# Altium integrated library TI Interface Display.IntLib: 133 symbols (part 14 of 16)
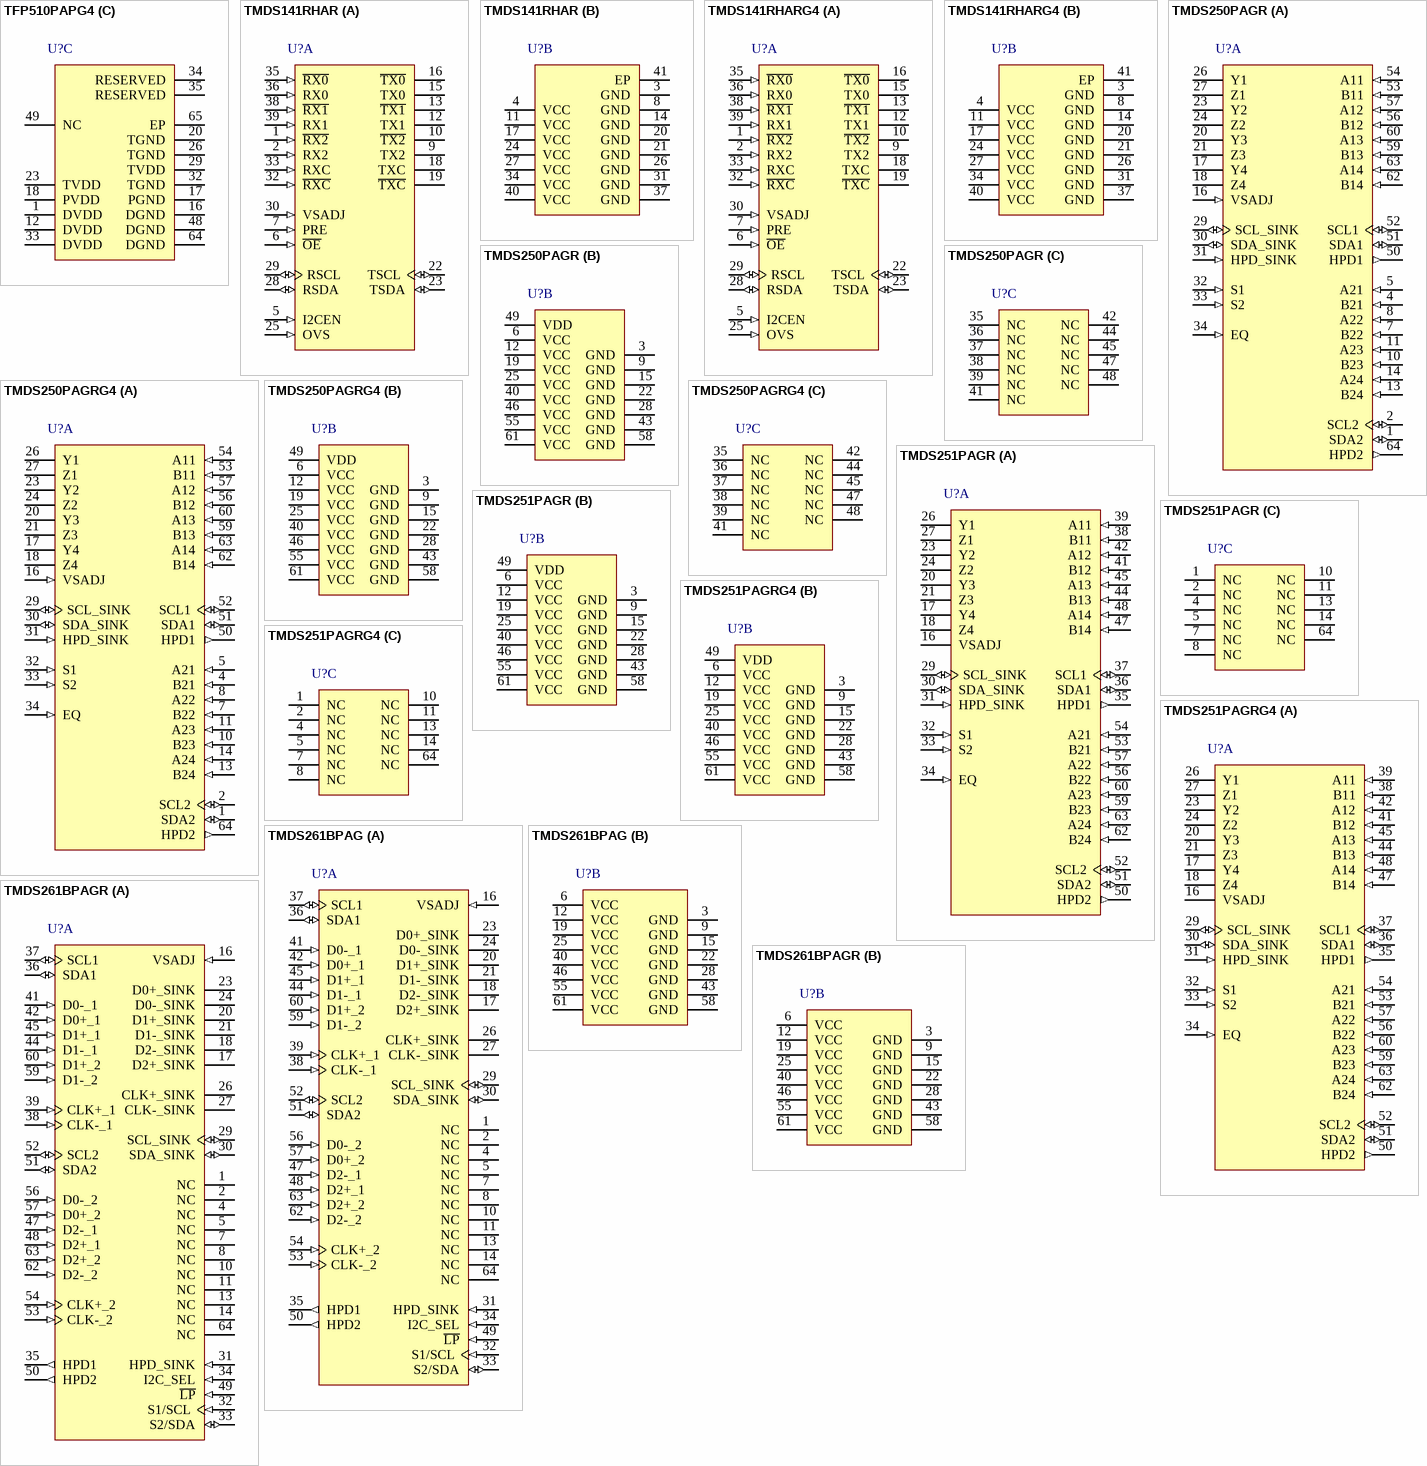
[diagram p27: symbols TFP510PAPG4 to TMDS261BPAGR]

## TMDS141RHARG4
designator U?
HDMI Hider, 130 mA, 6 kV, 0 to +70 degC, 40-pin QFN (RHA), Green (RoHS & no Sb/Br); Manufacturer: Texas Instruments; PartNumber: TMDS141RHARG4; Clock P-P Jitter(Max)(ps): 30; Data P-P Jitter(Max)(ps): 90; ESD HBM(kV): 6; ICC(Max)(mA): 130; Inter-Pair Skew(Max)(ps): 80; Intra-Pair Skew(Max)(ps): 60; No. of TMDS Inputs: 1; SubFamily: DVI/HDMI Repeater/Switch; TMDS Input Equalization: TRUE; DatasheetVersion: SLLS737D; PackageVersion: revL, May-2012; PackageReference: RHA40-2900X2900TP; PackageDescription: 40-Pin Plastic Quad Flatpack No-Lead, 6 x 6 mm Body, 0.5 mm Pitch; Supplier 1: Digi-Key; Supplier Part Number 1: TMDS141RHARG4-ND; Supplier 2: Newark; Supplier Part Number 2: 04M0197; Supplier 3: Mouser; Supplier Part Number 3: 595-TMDS141RHARG4; Eco-Plan: Green (RoHS & no Sb/Br); No. of TMDS Outputs: 1; TMDS Output De-emphasis: TRUE; Mounting Technology: Surface Mount; Code_JEDEC: MO-220-VJJD-2; ComponentLink1Description: Datasheet; ComponentLink1URL: http://www.ti.com/general/docs/lit/getliterature.tsp?genericPartNumber=TMDS141&fileType=pdf; ComponentLink2Description: URL Link1; ComponentLink2URL: SamplesURL:http://www.ti.com/product/tmds141#samples
footprint RHA40-2900X2900TP (QFN, 40-Leads, Body 6x6mm, Pitch 0.5mm, Thermal Pad 2.9x2.9mm, TI Recommended)
part A pins: 1 ~{RX2} (in) "TMDS Negative inputs", 2 RX2 (in) "TMDS Positive inputs", 5 I2CEN (in) "I2C Repeater enable. Low: High-Z;High: Active", 6 ~{OE} (in) "TMDS Output enable. Low: Active;High: High-Z", 7 PRE (in) "TMDS Output de-emphasis adjustment. Low: 0 dB;High: 3.5 dB", 9 TX2 (hiz) "TMDS Positive outputs", 10 ~{TX2} (hiz) "TMDS Negative outputs", 12 TX1 (hiz) "TMDS Positive outputs", 13 ~{TX1} (hiz) "TMDS Negative outputs", 15 TX0 (hiz) "TMDS Positive outputs", 16 ~{TX0} (hiz) "TMDS Negative outputs", 18 TXC (hiz) "TMDS Positive outputs", 19 ~{TXC} (hiz) "TMDS Negative outputs", 22 TSCL (io) "DDC Bus clock line to sink", 23 TSDA (io) "DDC Bus data line to sink", 25 OVS (in) "TSCL/TSDA Output voltage select", 28 RSDA (io) "DDC Bus data line to source", 29 RSCL (io) "DDC Bus clock line to source", 30 VSADJ (in) "TMDS Compliant voltage swing control", 32 ~{RXC} (in) "TMDS Negative inputs", 33 RXC (in) "TMDS Positive inputs", 35 ~{RX0} (in) "TMDS Negative inputs", 36 RX0 (in) "TMDS Positive inputs", 38 ~{RX1} (in) "TMDS Negative inputs", 39 RX1 (in) "TMDS Positive inputs"
part B pins: 3 GND (power) "Ground", 4 VCC (power) "Power supply", 8 GND (power) "Ground", 11 VCC (power) "Power supply", 14 GND (power) "Ground", 17 VCC (power) "Power supply", 20 GND (power) "Ground", 21 GND (power) "Ground", 24 VCC (power) "Power supply", 26 GND (power) "Ground", 27 VCC (power) "Power supply", 31 GND (power) "Ground", 34 VCC (power) "Power supply", 37 GND (power) "Ground", 40 VCC (power) "Power supply", 41 EP (power) "Exposed Thermal Pad"

## TMDS250PAGR
designator U?
2.5 Gbps 2 to 1 DVI / HDMI Switch, 200 mA, 8 kV, 0 to +70 degC, 64-pin TQPF (PAG), Green (RoHS & no Sb/Br); Manufacturer: Texas Instruments; PartNumber: TMDS250PAGR; Clock P-P Jitter(Max)(ps): 30; Data P-P Jitter(Max)(ps): 90; ESD HBM(kV): 8; ICC(Max)(mA): 200; Inter-Pair Skew(Max)(ps): 65; Intra-Pair Skew(Max)(ps): 40; No. of TMDS Inputs: 2; No. of TMDS Outputs: 1; SubFamily: DVI/HDMI Repeater/Switch; TMDS Input Equalization: TRUE; DatasheetVersion: SLLS866; PackageVersion: Dec-1996; PackageReference: PAG64; PackageDescription: 64-Pin Thin Quad Flat Pack 0.5 mm Pitch; Supplier 1: Digi-Key; Supplier Part Number 1: 296-22581-2-ND; Supplier 2: Digi-Key; Supplier Part Number 2: 296-22581-1-ND; Supplier 3: Digi-Key; Supplier Part Number 3: 296-22581-6-ND; Supplier 4: Newark; Supplier Part Number 4: 55M5940; Supplier 5: Mouser; Supplier Part Number 5: 595-TMDS250PAGR; Eco-Plan: Green (RoHS & no Sb/Br); Mounting Technology: Surface Mount; Code_JEDEC: MS-026; ComponentLink1Description: Datasheet; ComponentLink1URL: http://www.ti.com/general/docs/lit/getliterature.tsp?genericPartNumber=TMDS250&fileType=pdf; ComponentLink2Description: URL Link1; ComponentLink2URL: SamplesURL:http://www.ti.com/product/tmds250#samples
footprint PAG64_N (Thin QFP, 64-Leads, Body 10x10mm, Pitch 0.5mm, IPC Medium Density)
footprint PAG64_L (Thin QFP, 64-Leads, Body 10x10mm, Pitch 0.5mm, IPC High Density)
footprint PAG64_M (Thin QFP, 64-Leads, Body 10x10mm, Pitch 0.5mm, IPC Low Density)
part A pins: 1 SDA2 (io) "Source port 2 DDC I2C data line.", 2 SCL2 (io) "Source port 2 DDC I2C clock line.", 4 B21 (in) "Source port 2 TMDS negative input.", 5 A21 (in) "Source port 2 TMDS positive input.", 7 B22 (in) "Source port 2 TMDS negative input.", 8 A22 (in) "Source port 2 TMDS positive input.", 10 B23 (in) "Source port 2 TMDS negative input.", 11 A23 (in) "Source port 2 TMDS positive input.", 13 B24 (in) "Source port 2 TMDS negative input.", 14 A24 (in) "Source port 2 TMDS positive input.", 16 VSADJ (in) "TMDS compliant voltage swing control (control pin).", 17 Y4 (hiz) "Sink port TMDS positive output.", 18 Z4 (hiz) "Sink port TMDS negative output.", 20 Y3 (hiz) "Sink port TMDS positive output.", 21 Z3 (hiz) "Sink port TMDS negative output.", 23 Y2 (hiz) "Sink port TMDS positive output.", 24 Z2 (hiz) "Sink port TMDS negative output.", 26 Y1 (hiz) "Sink port TMDS positive output.", 27 Z1 (hiz) "Sink port TMDS negative output.", 29 SCL_SINK (io) "Sink port DDC I2C clock line.", 30 SDA_SINK (io) "Sink port DDC I2C data line.", 31 HPD_SINK (in) "Sink port hot plug detector input (status pin).", 32 S1 (in) "Source selector.", 33 S2 (in) "Source selector.", 34 EQ (in) "TMDS Input equalization selector (control pin).EQ = Low - HDMI 1.3 compliant cable; EQ = high - 10 m 28 AWG HDMI cable.", 50 HPD1 (out) "Source port 1 hot plug detector output (status pin).", 51 SDA1 (io) "Source port 1 DDC I2C data line.", 52 SCL1 (io) "Source port 1 DDC I2C clock line.", 53 B11 (in) "Source port 1 TMDS negative input.", 54 A11 (in) "Source port 1 TMDS positive input.", 56 B12 (in) "Source port 1 TMDS negative input.", 57 A12 (in) "Source port 1 TMDS positive input.", 59 B13 (in) "Source port 1 TMDS negative input.", 60 A13 (in) "Source port 1 TMDS positive input.", 62 B14 (in) "Source port 1 TMDS negative input.", 63 A14 (in) "Source port 1 TMDS positive input.", 64 HPD2 (out) "Source port 2 hot plug detector output (status pin)."
part B pins: 3 GND (power) "Ground.", 6 VCC (power) "Power supply.", 9 GND (power) "Ground.", 12 VCC (power) "Power supply.", 15 GND (power) "Ground.", 19 VCC (power) "Power supply.", 22 GND (power) "Ground.", 25 VCC (power) "Power supply.", 28 GND (power) "Ground.", 40 VCC (power) "Power supply.", 43 GND (power) "Ground.", 46 VCC (power) "Power supply.", 49 VDD (power) "HPD/DDC Power supply.", 55 VCC (power) "Power supply.", 58 GND (power) "Ground.", 61 VCC (power) "Power supply."
part C pins: 35 NC "No connect: these pins should be left floating.", 36 NC "No connect: these pins should be left floating.", 37 NC "No connect: these pins should be left floating.", 38 NC "No connect: these pins should be left floating.", 39 NC "No connect: these pins should be left floating", 41 NC "No connect: these pins should be left floating.", 42 NC "No connect: these pins should be left floating.", 44 NC "No connect: these pins should be left floating.", 45 NC "No connect: these pins should be left floating.", 47 NC "No connect: these pins should be left floating.", 48 NC "No connect: these pins should be left floating."

## TMDS250PAGRG4
designator U?
2.5 Gbps 2 to 1 DVI / HDMI Switch, 200 mA, 8 kV, 0 to +70 degC, 64-pin TQPF (PAG), Green (RoHS & no Sb/Br); Manufacturer: Texas Instruments; PartNumber: TMDS250PAGRG4; Clock P-P Jitter(Max)(ps): 30; Data P-P Jitter(Max)(ps): 90; ESD HBM(kV): 8; ICC(Max)(mA): 200; Inter-Pair Skew(Max)(ps): 65; Intra-Pair Skew(Max)(ps): 40; No. of TMDS Inputs: 2; No. of TMDS Outputs: 1; SubFamily: DVI/HDMI Repeater/Switch; TMDS Input Equalization: TRUE; DatasheetVersion: SLLS866; PackageVersion: Dec-1996; PackageReference: PAG64; PackageDescription: 64-Pin Thin Quad Flat Pack 0.5 mm Pitch; Supplier 1: Digi-Key; Supplier Part Number 1: TMDS250PAGRG4-ND; Supplier 2: Newark; Supplier Part Number 2: 60M1761; Supplier 3: Mouser; Supplier Part Number 3: 595-TMDS250PAGRG4; Eco-Plan: Green (RoHS & no Sb/Br); Mounting Technology: Surface Mount; Code_JEDEC: MS-026; ComponentLink1Description: Datasheet; ComponentLink1URL: http://www.ti.com/general/docs/lit/getliterature.tsp?genericPartNumber=TMDS250&fileType=pdf; ComponentLink2Description: URL Link1; ComponentLink2URL: SamplesURL:http://www.ti.com/product/tmds250#samples
footprint PAG64_N (Thin QFP, 64-Leads, Body 10x10mm, Pitch 0.5mm, IPC Medium Density)
footprint PAG64_L (Thin QFP, 64-Leads, Body 10x10mm, Pitch 0.5mm, IPC High Density)
footprint PAG64_M (Thin QFP, 64-Leads, Body 10x10mm, Pitch 0.5mm, IPC Low Density)
part A pins: 1 SDA2 (io) "Source port 2 DDC I2C data line.", 2 SCL2 (io) "Source port 2 DDC I2C clock line.", 4 B21 (in) "Source port 2 TMDS negative input.", 5 A21 (in) "Source port 2 TMDS positive input.", 7 B22 (in) "Source port 2 TMDS negative input.", 8 A22 (in) "Source port 2 TMDS positive input.", 10 B23 (in) "Source port 2 TMDS negative input.", 11 A23 (in) "Source port 2 TMDS positive input.", 13 B24 (in) "Source port 2 TMDS negative input.", 14 A24 (in) "Source port 2 TMDS positive input.", 16 VSADJ (in) "TMDS compliant voltage swing control (control pin).", 17 Y4 (hiz) "Sink port TMDS positive output.", 18 Z4 (hiz) "Sink port TMDS negative output.", 20 Y3 (hiz) "Sink port TMDS positive output.", 21 Z3 (hiz) "Sink port TMDS negative output.", 23 Y2 (hiz) "Sink port TMDS positive output.", 24 Z2 (hiz) "Sink port TMDS negative output.", 26 Y1 (hiz) "Sink port TMDS positive output.", 27 Z1 (hiz) "Sink port TMDS negative output.", 29 SCL_SINK (io) "Sink port DDC I2C clock line.", 30 SDA_SINK (io) "Sink port DDC I2C data line.", 31 HPD_SINK (in) "Sink port hot plug detector input (status pin).", 32 S1 (in) "Source selector.", 33 S2 (in) "Source selector.", 34 EQ (in) "TMDS Input equalization selector (control pin).EQ = Low - HDMI 1.3 compliant cable; EQ = high - 10 m 28 AWG HDMI cable.", 50 HPD1 (out) "Source port 1 hot plug detector output (status pin).", 51 SDA1 (io) "Source port 1 DDC I2C data line.", 52 SCL1 (io) "Source port 1 DDC I2C clock line.", 53 B11 (in) "Source port 1 TMDS negative input.", 54 A11 (in) "Source port 1 TMDS positive input.", 56 B12 (in) "Source port 1 TMDS negative input.", 57 A12 (in) "Source port 1 TMDS positive input.", 59 B13 (in) "Source port 1 TMDS negative input.", 60 A13 (in) "Source port 1 TMDS positive input.", 62 B14 (in) "Source port 1 TMDS negative input.", 63 A14 (in) "Source port 1 TMDS positive input.", 64 HPD2 (out) "Source port 2 hot plug detector output (status pin)."
part B pins: 3 GND (power) "Ground.", 6 VCC (power) "Power supply.", 9 GND (power) "Ground.", 12 VCC (power) "Power supply.", 15 GND (power) "Ground.", 19 VCC (power) "Power supply.", 22 GND (power) "Ground.", 25 VCC (power) "Power supply.", 28 GND (power) "Ground.", 40 VCC (power) "Power supply.", 43 GND (power) "Ground.", 46 VCC (power) "Power supply.", 49 VDD (power) "HPD/DDC Power supply.", 55 VCC (power) "Power supply.", 58 GND (power) "Ground.", 61 VCC (power) "Power supply."
part C pins: 35 NC "No connect: these pins should be left floating.", 36 NC "No connect: these pins should be left floating.", 37 NC "No connect: these pins should be left floating.", 38 NC "No connect: these pins should be left floating.", 39 NC "No connect: these pins should be left floating", 41 NC "No connect: these pins should be left floating.", 42 NC "No connect: these pins should be left floating.", 44 NC "No connect: these pins should be left floating.", 45 NC "No connect: these pins should be left floating.", 47 NC "No connect: these pins should be left floating.", 48 NC "No connect: these pins should be left floating."

## TMDS251PAGR
designator U?
2.5 Gbps 2 to 1 DVI / HDMI Switch, 200 mA, 8 kV, 0 to +70 degC, 64-pin TQPF (PAG), Green (RoHS & no Sb/Br); Manufacturer: Texas Instruments; PartNumber: TMDS251PAGR; Clock P-P Jitter(Max)(ps): 30; Data P-P Jitter(Max)(ps): 90; ESD HBM(kV): 8; ICC(Max)(mA): 200; Inter-Pair Skew(Max)(ps): 65; Intra-Pair Skew(Max)(ps): 40; No. of TMDS Inputs: 2; No. of TMDS Outputs: 1; SubFamily: DVI/HDMI Repeater/Switch; TMDS Input Equalization: TRUE; DatasheetVersion: SLLS852A; PackageVersion: Dec-1996; PackageReference: PAG64; PackageDescription: 64-Pin Thin Quad Flat Pack 0.5 mm Pitch; Supplier 1: Digi-Key; Supplier Part Number 1: 296-22051-2-ND; Supplier 2: Digi-Key; Supplier Part Number 2: 296-22051-1-ND; Supplier 3: Digi-Key; Supplier Part Number 3: 296-22051-6-ND; Supplier 4: Newark; Supplier Part Number 4: 53M3985; Supplier 5: Mouser; Supplier Part Number 5: 595-TMDS251PAGR; Eco-Plan: Green (RoHS & no Sb/Br); Mounting Technology: Surface Mount; Code_JEDEC: MS-026; ComponentLink1Description: Datasheet; ComponentLink1URL: http://www.ti.com/general/docs/lit/getliterature.tsp?genericPartNumber=TMDS251&fileType=pdf; ComponentLink2Description: URL Link1; ComponentLink2URL: SamplesURL:http://www.ti.com/product/tmds251#samples
footprint PAG64_N (Thin QFP, 64-Leads, Body 10x10mm, Pitch 0.5mm, IPC Medium Density)
footprint PAG64_L (Thin QFP, 64-Leads, Body 10x10mm, Pitch 0.5mm, IPC High Density)
footprint PAG64_M (Thin QFP, 64-Leads, Body 10x10mm, Pitch 0.5mm, IPC Low Density)
part A pins: 16 VSADJ (hiz) "TMDS compliant voltage swing control (control pin)", 17 Y4 (hiz) "Sink port TMDS positive outputs", 18 Z4 (hiz) "Sink port TMDS negative outputs", 20 Y3 (hiz) "Sink port TMDS positive outputs", 21 Z3 (hiz) "Sink port TMDS negative outputs", 23 Y2 (hiz) "Sink port TMDS positive outputs", 24 Z2 (hiz) "Sink port TMDS negative outputs", 26 Y1 (hiz) "Sink port TMDS positive outputs", 27 Z1 (hiz) "Sink port TMDS negative outputs", 29 SCL_SINK (io) "Sink port DDC I2C clock line", 30 SDA_SINK (io) "Sink port DDC I2C data line", 31 HPD_SINK (in) "Sink port hot plug detector input (status pin)", 32 S1 (in) "Source selector", 33 S2 (in) "Source selector", 34 EQ (in) "TMDS Input equalization selector (control pin) EQ 34 I EQ = Low - HDMI 1.3 compliant cable EQ = High - 10m 28 AWG HDMI cable", 35 HPD1 (out) "Source port 1 hot plug detector output (status pin)", 36 SDA1 (io) "Source port 1 DDC I2C data line", 37 SCL1 (io) "Source port 1 DDC I2C clock line", 38 B11 (in) "Source port 1 TMDS negative inputs", 39 A11 (in) "Source port 1 TMDS positive inputs", 41 B12 (in) "Source port 1 TMDS negative inputs", 42 A12 (in) "Source port 1 TMDS positive inputs", 44 B13 (in) "Source port 1 TMDS negative inputs", 45 A13 (in) "Source port 1 TMDS positive inputs", 47 B14 (in) "Source port 1 TMDS negative inputs", 48 A14 (in) "Source port 1 TMDS positive inputs", 50 HPD2 (out) "Source port 2 hot plug detector output (status pin)", 51 SDA2 (io) "Source port 2 DDC I2C data line", 52 SCL2 (io) "Source port 2 DDC I2C clock line", 53 B21 (in) "Source port 2 TMDS negative inputs", 54 A21 (in) "Source port 2 TMDS positive inputs", 56 B22 (in) "Source port 2 TMDS negative inputs", 57 A22 (in) "Source port 2 TMDS positive inputs", 59 B23 (in) "Source port 2 TMDS negative inputs", 60 A23 (in) "Source port 2 TMDS positive inputs", 62 B24 (in) "Source port 2 TMDS negative inputs", 63 A24 (in) "Source port 2 TMDS positive inputs"
part B pins: 3 GND (power) "Ground", 6 VCC (power) "Power supply", 9 GND (power) "Ground", 12 VCC (power) "Power supply", 15 GND (power) "Ground", 19 VCC (power) "Power supply", 22 GND (power) "Ground", 25 VCC (power) "Power supply", 28 GND (power) "Ground", 40 VCC (power) "Power supply", 43 GND (power) "Ground", 46 VCC (power) "Power supply", 49 VDD (power) "HPD/DDC Power supply", 55 VCC (power) "Power supply", 58 GND (power) "Ground", 61 VCC (power) "Power supply"
part C pins: 1 NC "No connect: these pins should be left floating", 2 NC "No connect: these pins should be left floating", 4 NC "No connect: these pins should be left floating", 5 NC "No connect: these pins should be left floating", 7 NC "No connect: these pins should be left floating", 8 NC "No connect: these pins should be left floating", 10 NC "No connect: these pins should be left floating", 11 NC "No connect: these pins should be left floating", 13 NC "No connect: these pins should be left floating", 14 NC "No connect: these pins should be left floating", 64 NC "No connect: these pins should be left floating"

## TMDS251PAGRG4
designator U?
2-to-1 HDMI Switch, 200 mA, 8 kV, 0 to +70 degC, 64-pin TQPF (PAG), Green (RoHS & no Sb/Br); Manufacturer: Texas Instruments; PartNumber: TMDS251PAGRG4; Clock P-P Jitter(Max)(ps): 30; Data P-P Jitter(Max)(ps): 90; ESD HBM(kV): 8; ICC(Max)(mA): 200; Inter-Pair Skew(Max)(ps): 65; Intra-Pair Skew(Max)(ps): 40; No. of TMDS Inputs: 2; No. of TMDS Outputs: 1; SubFamily: DVI/HDMI Repeater/Switch; TMDS Input Equalization: TRUE; DatasheetVersion: SLLS852A; PackageVersion: Dec-1996; PackageReference: PAG64; PackageDescription: 64-Pin Thin Quad Flat Pack 0.5 mm Pitch; Supplier 1: Digi-Key; Supplier Part Number 1: TMDS251PAGRG4-ND; Supplier 2: Newark; Supplier Part Number 2: 60M1762; Supplier 3: Mouser; Supplier Part Number 3: 595-TMDS251PAGRG4; Eco-Plan: Green (RoHS & no Sb/Br); Mounting Technology: Surface Mount; Code_JEDEC: MS-026; ComponentLink1Description: Datasheet; ComponentLink1URL: http://www.ti.com/general/docs/lit/getliterature.tsp?genericPartNumber=TMDS251&fileType=pdf; ComponentLink2Description: URL Link1; ComponentLink2URL: SamplesURL:http://www.ti.com/product/tmds251#samples
footprint PAG64_N (Thin QFP, 64-Leads, Body 10x10mm, Pitch 0.5mm, IPC Medium Density)
footprint PAG64_L (Thin QFP, 64-Leads, Body 10x10mm, Pitch 0.5mm, IPC High Density)
footprint PAG64_M (Thin QFP, 64-Leads, Body 10x10mm, Pitch 0.5mm, IPC Low Density)
part A pins: 16 VSADJ (hiz) "TMDS compliant voltage swing control (control pin)", 17 Y4 (hiz) "Sink port TMDS positive outputs", 18 Z4 (hiz) "Sink port TMDS negative outputs", 20 Y3 (hiz) "Sink port TMDS positive outputs", 21 Z3 (hiz) "Sink port TMDS negative outputs", 23 Y2 (hiz) "Sink port TMDS positive outputs", 24 Z2 (hiz) "Sink port TMDS negative outputs", 26 Y1 (hiz) "Sink port TMDS positive outputs", 27 Z1 (hiz) "Sink port TMDS negative outputs", 29 SCL_SINK (io) "Sink port DDC I2C clock line", 30 SDA_SINK (io) "Sink port DDC I2C data line", 31 HPD_SINK (in) "Sink port hot plug detector input (status pin)", 32 S1 (in) "Source selector", 33 S2 (in) "Source selector", 34 EQ (in) "TMDS Input equalization selector (control pin) EQ 34 I EQ = Low - HDMI 1.3 compliant cable EQ = High - 10m 28 AWG HDMI cable", 35 HPD1 (out) "Source port 1 hot plug detector output (status pin)", 36 SDA1 (io) "Source port 1 DDC I2C data line", 37 SCL1 (io) "Source port 1 DDC I2C clock line", 38 B11 (in) "Source port 1 TMDS negative inputs", 39 A11 (in) "Source port 1 TMDS positive inputs", 41 B12 (in) "Source port 1 TMDS negative inputs", 42 A12 (in) "Source port 1 TMDS positive inputs", 44 B13 (in) "Source port 1 TMDS negative inputs", 45 A13 (in) "Source port 1 TMDS positive inputs", 47 B14 (in) "Source port 1 TMDS negative inputs", 48 A14 (in) "Source port 1 TMDS positive inputs", 50 HPD2 (out) "Source port 2 hot plug detector output (status pin)", 51 SDA2 (io) "Source port 2 DDC I2C data line", 52 SCL2 (io) "Source port 2 DDC I2C clock line", 53 B21 (in) "Source port 2 TMDS negative inputs", 54 A21 (in) "Source port 2 TMDS positive inputs", 56 B22 (in) "Source port 2 TMDS negative inputs", 57 A22 (in) "Source port 2 TMDS positive inputs", 59 B23 (in) "Source port 2 TMDS negative inputs", 60 A23 (in) "Source port 2 TMDS positive inputs", 62 B24 (in) "Source port 2 TMDS negative inputs", 63 A24 (in) "Source port 2 TMDS positive inputs"
part B pins: 3 GND (power) "Ground", 6 VCC (power) "Power supply", 9 GND (power) "Ground", 12 VCC (power) "Power supply", 15 GND (power) "Ground", 19 VCC (power) "Power supply", 22 GND (power) "Ground", 25 VCC (power) "Power supply", 28 GND (power) "Ground", 40 VCC (power) "Power supply", 43 GND (power) "Ground", 46 VCC (power) "Power supply", 49 VDD (power) "HPD/DDC Power supply", 55 VCC (power) "Power supply", 58 GND (power) "Ground", 61 VCC (power) "Power supply"
part C pins: 1 NC "No connect: these pins should be left floating", 2 NC "No connect: these pins should be left floating", 4 NC "No connect: these pins should be left floating", 5 NC "No connect: these pins should be left floating", 7 NC "No connect: these pins should be left floating", 8 NC "No connect: these pins should be left floating", 10 NC "No connect: these pins should be left floating", 11 NC "No connect: these pins should be left floating", 13 NC "No connect: these pins should be left floating", 14 NC "No connect: these pins should be left floating", 64 NC "No connect: these pins should be left floating"

## TMDS261BPAG
designator U?
Two-Port HDMI Switch, 216 mA, 9 kV, 0 to +70 degC, 64-pin TQPF (PAG), Green (RoHS & no Sb/Br); Manufacturer: Texas Instruments; PartNumber: TMDS261BPAG; Clock P-P Jitter(Max)(ps): 84; Data P-P Jitter(Max)(ps): 198; ESD HBM(kV): 9; ICC(Max)(mA): 216; Inter-Pair Skew(Max)(ps): 100; Intra-Pair Skew(Max)(ps): 30; No. of TMDS Inputs: 2; No. of TMDS Outputs: 1; SubFamily: DVI/HDMI Repeater/Switch; TMDS Adaptive Equalization: TRUE; DatasheetVersion: SLLS987A; PackageVersion: Dec-1996; PackageReference: PAG64; PackageDescription: 64-Pin Thin Quad Flat Pack 0.5 mm Pitch; Supplier 1: Digi-Key; Supplier Part Number 1: 296-25277-ND; Supplier 2: Farnell; Supplier Part Number 2: 1854447; Supplier 3: Farnell; Supplier Part Number 3: 1780793; Supplier 4: Newark; Supplier Part Number 4: 51R4692; Supplier 5: Mouser; Supplier Part Number 5: 595-TMDS261BPAG; Eco-Plan: Green (RoHS & no Sb/Br); Mounting Technology: Surface Mount; Code_JEDEC: MS-026; ComponentLink1Description: Datasheet; ComponentLink1URL: http://www.ti.com/general/docs/lit/getliterature.tsp?genericPartNumber=TMDS261B&fileType=pdf; ComponentLink2Description: URL Link1; ComponentLink2URL: SamplesURL:http://www.ti.com/product/tmds261b#samples
footprint PAG64_N (Thin QFP, 64-Leads, Body 10x10mm, Pitch 0.5mm, IPC Medium Density)
footprint PAG64_L (Thin QFP, 64-Leads, Body 10x10mm, Pitch 0.5mm, IPC High Density)
footprint PAG64_M (Thin QFP, 64-Leads, Body 10x10mm, Pitch 0.5mm, IPC Low Density)
part A pins: 1 NC "No-connect pin", 2 NC "No-connect pin", 4 NC "No-connect pin", 5 NC "No-connect pin", 7 NC "No-connect pin", 8 NC "No-connect pin", 10 NC "No-connect pin", 11 NC "No-connect pin", 13 NC "No-connect pin", 14 NC "No-connect pin", 16 VSADJ (in) "TMDS-compliant voltage swing control", 17 D2+_SINK (hiz) "TMDS sink differential data output", 18 D2-_SINK (hiz) "TMDS sink differential data output", 20 D1+_SINK (hiz) "TMDS sink differential data output", 21 D1-_SINK (hiz) "TMDS sink differential data output", 23 D0+_SINK (hiz) "TMDS sink differential data output", 24 D0-_SINK (hiz) "TMDS sink differential data output", 26 CLK+_SINK (hiz) "TMDS sink differential clock", 27 CLK-_SINK (hiz) "TMDS sink differential clock", 29 SCL_SINK (io) "TMDS sink-side bidirectional DDC clock", 30 SDA_SINK (io) "TMDS sink-side bidirectional DDC data", 31 HPD_SINK (in) "Sink hot-plug-detect input", 32 S1/SCL (in) "Source select 1(GPIO) / local I2C clock (I2C)", 33 S2/SDA (io) "Source select 2 (GPIO) / local I2C data (I2C)", 34 I2C_SEL (in) "GPIO/local I2C control select", 35 HPD1 (out) "Source port hot-plug-detect output", 36 SDA1 (io) "TMDS port bidirectional DDC data", 37 SCL1 (io) "TMDS port bidirectional DDC clock", 38 CLK-_1 (in) "Port-1 TMDS differential clock", 39 CLK+_1 (in) "Port-1 TMDS differential clock", 41 D0-_1 (in) "Port-1 TMDS differential data input", 42 D0+_1 (in) "Port-1 TMDS differential data input", 44 D1-_1 (in) "Port-1 TMDS differential data input", 45 D1+_1 (in) "Port-1 TMDS differential data input", 47 D2-_1 (in) "Port-1 TMDS differential data input", 48 D2+_1 (in) "Port-1 TMDS differential data input", 49 ~{LP} (in) "Low-power select bar", 50 HPD2 (out) "Source port hot-plug-detect output", 51 SDA2 (io) "TMDS port bidirectional DDC data", 52 SCL2 (io) "TMDS port bidirectional DDC clock", 53 CLK-_2 (in) "Port-2 TMDS differential clock", 54 CLK+_2 (in) "Port-2 TMDS differential clock", 56 D0-_2 (in) "Port-2 TMDS differential data input", 57 D0+_2 (in) "Port-2 TMDS differential data input", 59 D1-_2 (in) "Port-2 TMDS differential data input", 60 D1+_2 (in) "Port-2 TMDS differential data input", 62 D2-_2 (in) "Port-2 TMDS differential data input", 63 D2+_2 (in) "Port-2 TMDS differential data input", 64 NC "No-connect pin"
part B pins: 3 GND (power) "Ground", 6 VCC (power) "3.3-V supply", 9 GND (power) "Ground", 12 VCC (power) "3.3-V supply", 15 GND (power) "Ground", 19 VCC (power) "3.3-V supply", 22 GND (power) "Ground", 25 VCC (power) "3.3-V supply", 28 GND (power) "Ground", 40 VCC (power) "3.3-V supply", 43 GND (power) "Ground", 46 VCC (power) "3.3-V supply", 55 VCC (power) "3.3-V supply", 58 GND (power) "Ground", 61 VCC (power) "3.3-V supply"

## TMDS261BPAGR
designator U?
Two-Port HDMI Switch, 216 mA, 9 kV, 0 to +70 degC, 64-pin TQPF (PAG), Green (RoHS & no Sb/Br); Manufacturer: Texas Instruments; PartNumber: TMDS261BPAGR; Clock P-P Jitter(Max)(ps): 84; Data P-P Jitter(Max)(ps): 198; ESD HBM(kV): 9; ICC(Max)(mA): 216; Inter-Pair Skew(Max)(ps): 100; Intra-Pair Skew(Max)(ps): 30; No. of TMDS Inputs: 2; No. of TMDS Outputs: 1; SubFamily: DVI/HDMI Repeater/Switch; TMDS Adaptive Equalization: TRUE; DatasheetVersion: SLLS987A; PackageVersion: Dec-1996; PackageReference: PAG64; PackageDescription: 64-Pin Thin Quad Flat Pack 0.5 mm Pitch; Supplier 1: Digi-Key; Supplier Part Number 1: TMDS261BPAGR-ND; Supplier 2: Newark; Supplier Part Number 2: 55R7478; Supplier 3: Mouser; Supplier Part Number 3: 595-TMDS261BPAGR; Eco-Plan: Green (RoHS & no Sb/Br); Mounting Technology: Surface Mount; Code_JEDEC: MS-026; ComponentLink1Description: Datasheet; ComponentLink1URL: http://www.ti.com/general/docs/lit/getliterature.tsp?genericPartNumber=TMDS261B&fileType=pdf; ComponentLink2Description: URL Link1; ComponentLink2URL: SamplesURL:http://www.ti.com/product/tmds261b#samples
footprint PAG64_N (Thin QFP, 64-Leads, Body 10x10mm, Pitch 0.5mm, IPC Medium Density)
footprint PAG64_L (Thin QFP, 64-Leads, Body 10x10mm, Pitch 0.5mm, IPC High Density)
footprint PAG64_M (Thin QFP, 64-Leads, Body 10x10mm, Pitch 0.5mm, IPC Low Density)
part A pins: 1 NC "No-connect pin", 2 NC "No-connect pin", 4 NC "No-connect pin", 5 NC "No-connect pin", 7 NC "No-connect pin", 8 NC "No-connect pin", 10 NC "No-connect pin", 11 NC "No-connect pin", 13 NC "No-connect pin", 14 NC "No-connect pin", 16 VSADJ (in) "TMDS-compliant voltage swing control", 17 D2+_SINK (hiz) "TMDS sink differential data output", 18 D2-_SINK (hiz) "TMDS sink differential data output", 20 D1+_SINK (hiz) "TMDS sink differential data output", 21 D1-_SINK (hiz) "TMDS sink differential data output", 23 D0+_SINK (hiz) "TMDS sink differential data output", 24 D0-_SINK (hiz) "TMDS sink differential data output", 26 CLK+_SINK (hiz) "TMDS sink differential clock", 27 CLK-_SINK (hiz) "TMDS sink differential clock", 29 SCL_SINK (io) "TMDS sink-side bidirectional DDC clock", 30 SDA_SINK (io) "TMDS sink-side bidirectional DDC data", 31 HPD_SINK (in) "Sink hot-plug-detect input", 32 S1/SCL (in) "Source select 1(GPIO) / local I2C clock (I2C)", 33 S2/SDA (io) "Source select 2 (GPIO) / local I2C data (I2C)", 34 I2C_SEL (in) "GPIO/local I2C control select", 35 HPD1 (out) "Source port hot-plug-detect output", 36 SDA1 (io) "TMDS port bidirectional DDC data", 37 SCL1 (io) "TMDS port bidirectional DDC clock", 38 CLK-_1 (in) "Port-1 TMDS differential clock", 39 CLK+_1 (in) "Port-1 TMDS differential clock", 41 D0-_1 (in) "Port-1 TMDS differential data input", 42 D0+_1 (in) "Port-1 TMDS differential data input", 44 D1-_1 (in) "Port-1 TMDS differential data input", 45 D1+_1 (in) "Port-1 TMDS differential data input", 47 D2-_1 (in) "Port-1 TMDS differential data input", 48 D2+_1 (in) "Port-1 TMDS differential data input", 49 ~{LP} (in) "Low-power select bar", 50 HPD2 (out) "Source port hot-plug-detect output", 51 SDA2 (io) "TMDS port bidirectional DDC data", 52 SCL2 (io) "TMDS port bidirectional DDC clock", 53 CLK-_2 (in) "Port-2 TMDS differential clock", 54 CLK+_2 (in) "Port-2 TMDS differential clock", 56 D0-_2 (in) "Port-2 TMDS differential data input", 57 D0+_2 (in) "Port-2 TMDS differential data input", 59 D1-_2 (in) "Port-2 TMDS differential data input", 60 D1+_2 (in) "Port-2 TMDS differential data input", 62 D2-_2 (in) "Port-2 TMDS differential data input", 63 D2+_2 (in) "Port-2 TMDS differential data input", 64 NC "No-connect pin"
part B pins: 3 GND (power) "Ground", 6 VCC (power) "3.3-V supply", 9 GND (power) "Ground", 12 VCC (power) "3.3-V supply", 15 GND (power) "Ground", 19 VCC (power) "3.3-V supply", 22 GND (power) "Ground", 25 VCC (power) "3.3-V supply", 28 GND (power) "Ground", 40 VCC (power) "3.3-V supply", 43 GND (power) "Ground", 46 VCC (power) "3.3-V supply", 55 VCC (power) "3.3-V supply", 58 GND (power) "Ground", 61 VCC (power) "3.3-V supply"

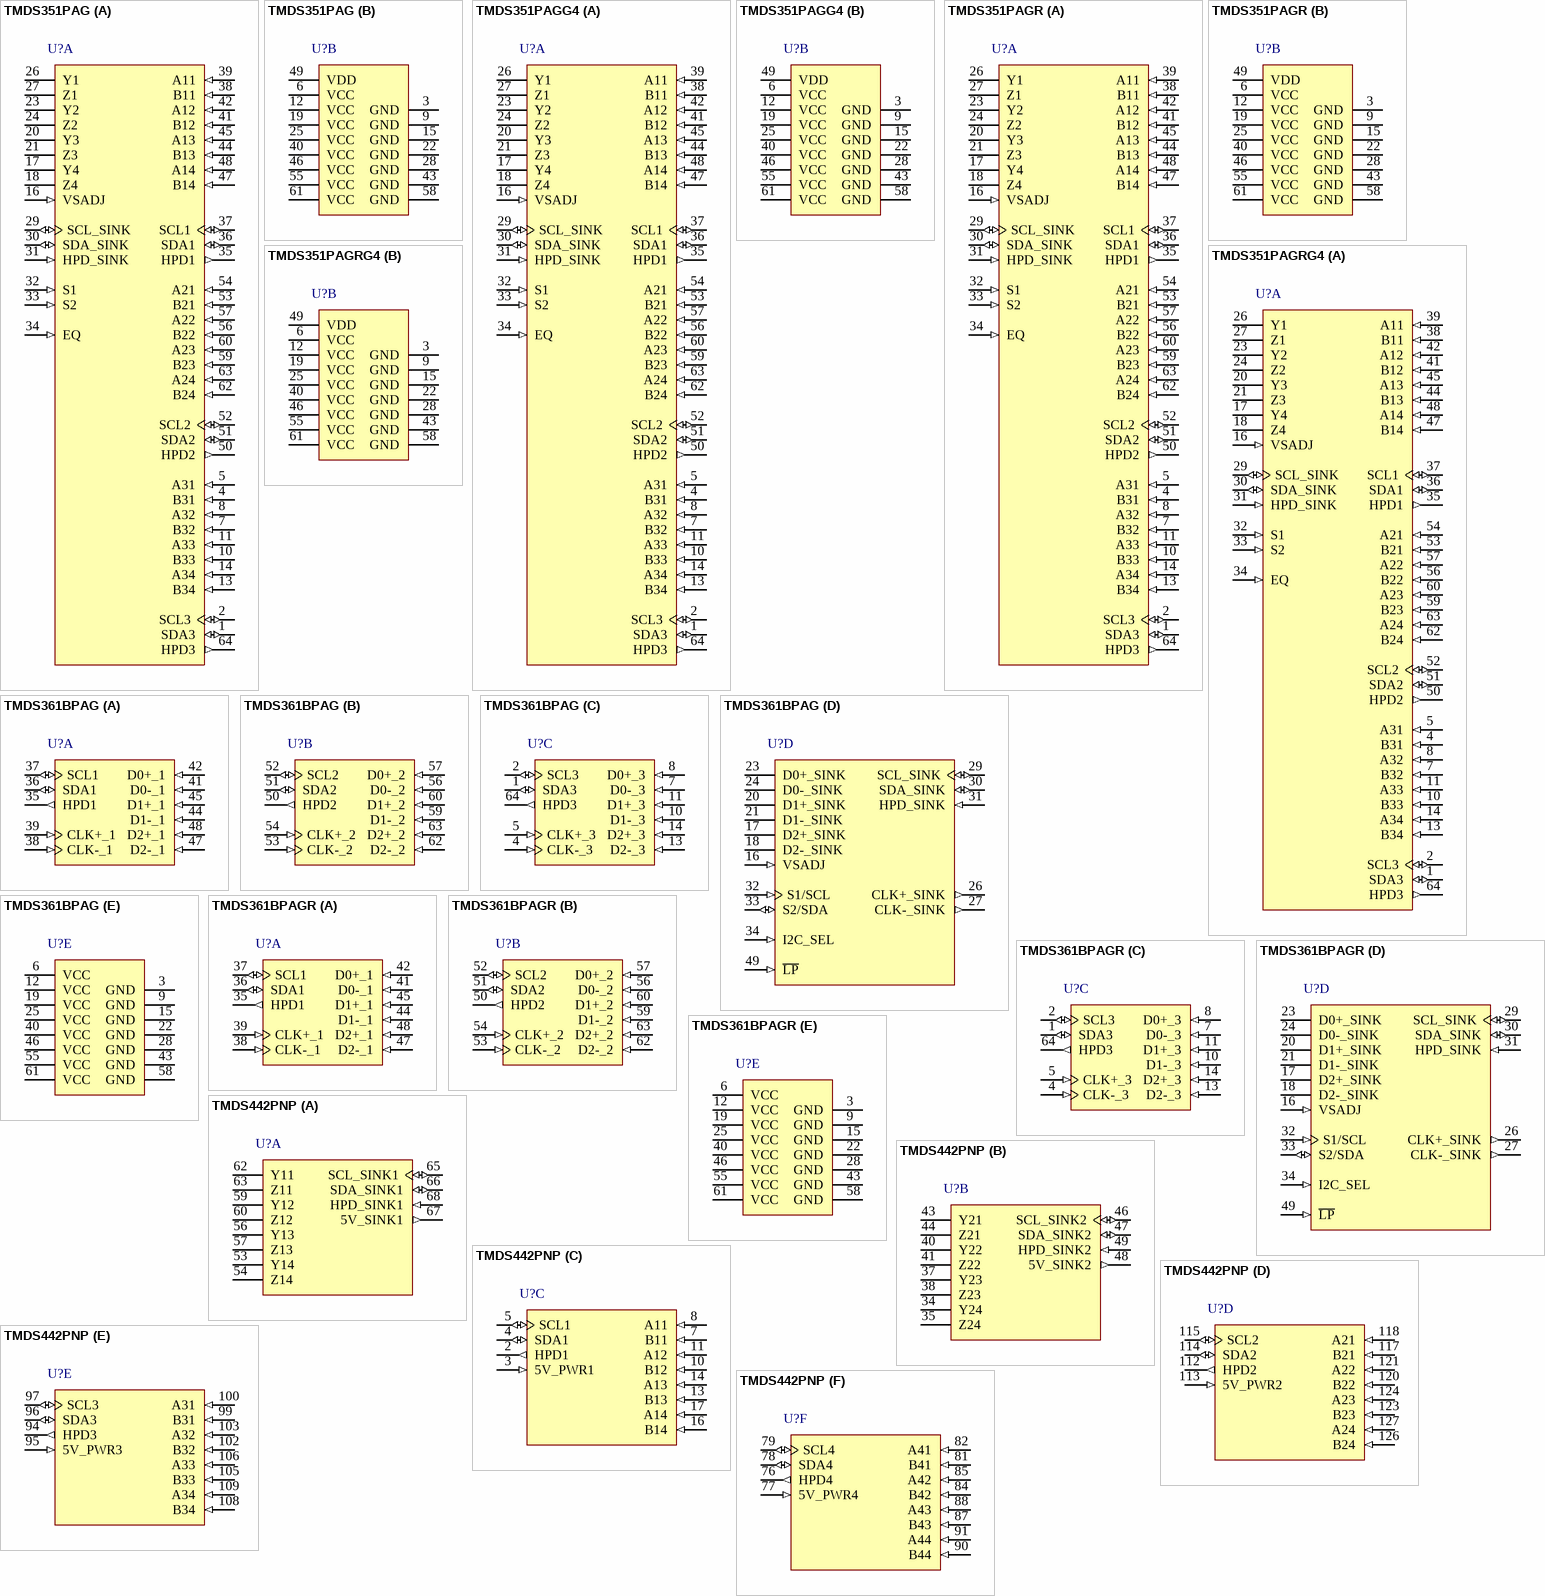
[diagram p12: symbols TMDS351PAG to TMDS442PNP]

## TMDS351PAG
designator U?
3-to-1 HDMI Switch, 8 kV, 200 mA, 0 to +70 degC, 64-pin TQFP (PAG), Green (RoHS & no Sb/Br); Manufacturer: Texas Instruments; PartNumber: TMDS351PAG; Clock P-P Jitter(Max)(ps): 30; Data P-P Jitter(Max)(ps): 90; ESD HBM(kV): 8; ICC(Max)(mA): 200; Inter-Pair Skew(Max)(ps): 65; Intra-Pair Skew(Max)(ps): 40; No. of TMDS Inputs: 3; No. of TMDS Outputs: 1; SubFamily: DVI/HDMI Repeater/Switch; TMDS Input Equalization: TRUE; DatasheetVersion: SLLS840B; PackageVersion: Dec-1996; PackageReference: PAG64; PackageDescription: 64-Pin Thin Quad Flat Pack 0.5 mm Pitch; Supplier 1: Digi-Key; Supplier Part Number 1: 296-21970-ND; Supplier 2: Newark; Supplier Part Number 2: 46M9301; Supplier 3: Mouser; Supplier Part Number 3: 595-TMDS351PAG; Eco-Plan: Green (RoHS & no Sb/Br); Mounting Technology: Surface Mount; Code_JEDEC: MS-026; ComponentLink1Description: Datasheet; ComponentLink1URL: http://www.ti.com/general/docs/lit/getliterature.tsp?genericPartNumber=TMDS351&fileType=pdf; ComponentLink2Description: URL Link1; ComponentLink2URL: SamplesURL:http://www.ti.com/product/tmds351#samples
footprint PAG64_N (Thin QFP, 64-Leads, Body 10x10mm, Pitch 0.5mm, IPC Medium Density)
footprint PAG64_L (Thin QFP, 64-Leads, Body 10x10mm, Pitch 0.5mm, IPC High Density)
footprint PAG64_M (Thin QFP, 64-Leads, Body 10x10mm, Pitch 0.5mm, IPC Low Density)
part A pins: 1 SDA3 (io) "Source port 3 DDC I2C data line", 2 SCL3 (io) "Source port 3 DDC I2C clock line", 4 B31 (in) "Source port 3 TMDS negative inputs", 5 A31 (in) "Source port 3 TMDS positive inputs", 7 B32 (in) "Source port 3 TMDS negative inputs", 8 A32 (in) "Source port 3 TMDS positive inputs", 10 B33 (in) "Source port 3 TMDS negative inputs", 11 A33 (in) "Source port 3 TMDS positive inputs", 13 B34 (in) "Source port 3 TMDS negative inputs", 14 A34 (in) "Source port 3 TMDS positive inputs", 16 VSADJ (in) "TMDS compliant voltage swing control (control pin)", 17 Y4 (hiz) "Sink port TMDS positive outputs", 18 Z4 (hiz) "Sink port TMDS negative outputs", 20 Y3 (hiz) "Sink port TMDS positive outputs", 21 Z3 (hiz) "Sink port TMDS negative outputs", 23 Y2 (hiz) "Sink port TMDS positive outputs", 24 Z2 (hiz) "Sink port TMDS negative outputs", 26 Y1 (hiz) "Sink port TMDS positive outputs", 27 Z1 (hiz) "Sink port TMDS negative outputs", 29 SCL_SINK (io) "Sink port DDC I2C clock line", 30 SDA_SINK (io) "Sink port DDC I2C data line", 31 HPD_SINK (in) "Sink port hot plug detector input (status pin)", 32 S1 (in) "Source selector", 33 S2 (in) "Source selector", 34 EQ (in) "TMDS Input equalization selector (control pin)  EQ = Low - HDMI 1.3 compliant cable. EQ = High - 10m 28 AWG HDMI cable.", 35 HPD1 (out) "Source port 1 hot plug detector output (status pin)", 36 SDA1 (io) "Source port 1 DDC I2C data line", 37 SCL1 (io) "Source port 1 DDC I2C clock line", 38 B11 (in) "Source port 1 TMDS negative inputs", 39 A11 (in) "Source port 1 TMDS positive inputs", 41 B12 (in) "Source port 1 TMDS negative inputs", 42 A12 (in) "Source port 1 TMDS positive inputs", 44 B13 (in) "Source port 1 TMDS negative inputs", 45 A13 (in) "Source port 1 TMDS positive inputs", 47 B14 (in) "Source port 1 TMDS negative inputs", 48 A14 (in) "Source port 1 TMDS positive inputs", 50 HPD2 (out) "Source port 2 hot plug detector output (status pin)", 51 SDA2 (io) "Source port 2 DDC I2C data line", 52 SCL2 (io) "Source port 2 DDC I2C clock line", 53 B21 (in) "Source port 2 TMDS negative inputs", 54 A21 (in) "Source port 2 TMDS positive inputs", 56 B22 (in) "Source port 2 TMDS negative inputs", 57 A22 (in) "Source port 2 TMDS positive inputs", 59 B23 (in) "Source port 2 TMDS negative inputs", 60 A23 (in) "Source port 2 TMDS positive inputs", 62 B24 (in) "Source port 2 TMDS negative inputs", 63 A24 (in) "Source port 2 TMDS positive inputs", 64 HPD3 (out) "Source port 3 hot plug detector output (status pin)"
part B pins: 3 GND (power) "Ground", 6 VCC (power) "Power supply", 9 GND (power) "Ground", 12 VCC (power) "Power supply", 15 GND (power) "Ground", 19 VCC (power) "Power supply", 22 GND (power) "Ground", 25 VCC (power) "Power supply", 28 GND (power) "Ground", 40 VCC (power) "Power supply", 43 GND (power) "Ground", 46 VCC (power) "Power supply", 49 VDD (power) "HPD/DDC Power supply", 55 VCC (power) "Power supply", 58 GND (power) "Ground", 61 VCC (power) "Power supply"

## TMDS351PAGG4
designator U?
3-to-1 HDMI Switch, 8 kV, 200 mA, 0 to +70 degC, 64-pin TQFP (PAG), Green (RoHS & no Sb/Br); Manufacturer: Texas Instruments; PartNumber: TMDS351PAGG4; Clock P-P Jitter(Max)(ps): 30; Data P-P Jitter(Max)(ps): 90; ESD HBM(kV): 8; ICC(Max)(mA): 200; Inter-Pair Skew(Max)(ps): 65; Intra-Pair Skew(Max)(ps): 40; No. of TMDS Inputs: 3; No. of TMDS Outputs: 1; SubFamily: DVI/HDMI Repeater/Switch; TMDS Input Equalization: TRUE; DatasheetVersion: SLLS840B; PackageVersion: Dec-1996; PackageReference: PAG64; PackageDescription: 64-Pin Thin Quad Flat Pack 0.5 mm Pitch; Supplier 1: Digi-Key; Supplier Part Number 1: TMDS351PAGG4-ND; Supplier 2: Newark; Supplier Part Number 2: 52M6090; Supplier 3: Mouser; Supplier Part Number 3: 595-TMDS351PAGG4; Eco-Plan: Green (RoHS & no Sb/Br); Mounting Technology: Surface Mount; Code_JEDEC: MS-026; ComponentLink1Description: Datasheet; ComponentLink1URL: http://www.ti.com/general/docs/lit/getliterature.tsp?genericPartNumber=TMDS351&fileType=pdf; ComponentLink2Description: URL Link1; ComponentLink2URL: SamplesURL:http://www.ti.com/product/tmds351#samples
footprint PAG64_N (Thin QFP, 64-Leads, Body 10x10mm, Pitch 0.5mm, IPC Medium Density)
footprint PAG64_L (Thin QFP, 64-Leads, Body 10x10mm, Pitch 0.5mm, IPC High Density)
footprint PAG64_M (Thin QFP, 64-Leads, Body 10x10mm, Pitch 0.5mm, IPC Low Density)
part A pins: 1 SDA3 (io) "Source port 3 DDC I2C data line", 2 SCL3 (io) "Source port 3 DDC I2C clock line", 4 B31 (in) "Source port 3 TMDS negative inputs", 5 A31 (in) "Source port 3 TMDS positive inputs", 7 B32 (in) "Source port 3 TMDS negative inputs", 8 A32 (in) "Source port 3 TMDS positive inputs", 10 B33 (in) "Source port 3 TMDS negative inputs", 11 A33 (in) "Source port 3 TMDS positive inputs", 13 B34 (in) "Source port 3 TMDS negative inputs", 14 A34 (in) "Source port 3 TMDS positive inputs", 16 VSADJ (in) "TMDS compliant voltage swing control (control pin)", 17 Y4 (hiz) "Sink port TMDS positive outputs", 18 Z4 (hiz) "Sink port TMDS negative outputs", 20 Y3 (hiz) "Sink port TMDS positive outputs", 21 Z3 (hiz) "Sink port TMDS negative outputs", 23 Y2 (hiz) "Sink port TMDS positive outputs", 24 Z2 (hiz) "Sink port TMDS negative outputs", 26 Y1 (hiz) "Sink port TMDS positive outputs", 27 Z1 (hiz) "Sink port TMDS negative outputs", 29 SCL_SINK (io) "Sink port DDC I2C clock line", 30 SDA_SINK (io) "Sink port DDC I2C data line", 31 HPD_SINK (in) "Sink port hot plug detector input (status pin)", 32 S1 (in) "Source selector", 33 S2 (in) "Source selector", 34 EQ (in) "TMDS Input equalization selector (control pin)  EQ = Low - HDMI 1.3 compliant cable. EQ = High - 10m 28 AWG HDMI cable.", 35 HPD1 (out) "Source port 1 hot plug detector output (status pin)", 36 SDA1 (io) "Source port 1 DDC I2C data line", 37 SCL1 (io) "Source port 1 DDC I2C clock line", 38 B11 (in) "Source port 1 TMDS negative inputs", 39 A11 (in) "Source port 1 TMDS positive inputs", 41 B12 (in) "Source port 1 TMDS negative inputs", 42 A12 (in) "Source port 1 TMDS positive inputs", 44 B13 (in) "Source port 1 TMDS negative inputs", 45 A13 (in) "Source port 1 TMDS positive inputs", 47 B14 (in) "Source port 1 TMDS negative inputs", 48 A14 (in) "Source port 1 TMDS positive inputs", 50 HPD2 (out) "Source port 2 hot plug detector output (status pin)", 51 SDA2 (io) "Source port 2 DDC I2C data line", 52 SCL2 (io) "Source port 2 DDC I2C clock line", 53 B21 (in) "Source port 2 TMDS negative inputs", 54 A21 (in) "Source port 2 TMDS positive inputs", 56 B22 (in) "Source port 2 TMDS negative inputs", 57 A22 (in) "Source port 2 TMDS positive inputs", 59 B23 (in) "Source port 2 TMDS negative inputs", 60 A23 (in) "Source port 2 TMDS positive inputs", 62 B24 (in) "Source port 2 TMDS negative inputs", 63 A24 (in) "Source port 2 TMDS positive inputs", 64 HPD3 (out) "Source port 3 hot plug detector output (status pin)"
part B pins: 3 GND (power) "Ground", 6 VCC (power) "Power supply", 9 GND (power) "Ground", 12 VCC (power) "Power supply", 15 GND (power) "Ground", 19 VCC (power) "Power supply", 22 GND (power) "Ground", 25 VCC (power) "Power supply", 28 GND (power) "Ground", 40 VCC (power) "Power supply", 43 GND (power) "Ground", 46 VCC (power) "Power supply", 49 VDD (power) "HPD/DDC Power supply", 55 VCC (power) "Power supply", 58 GND (power) "Ground", 61 VCC (power) "Power supply"

## TMDS351PAGR
designator U?
3-to-1 HDMI Switch, 8 kV, 200 mA, 0 to +70 degC, 64-pin TQFP (PAG), Green (RoHS & no Sb/Br); Manufacturer: Texas Instruments; PartNumber: TMDS351PAGR; Clock P-P Jitter(Max)(ps): 30; Data P-P Jitter(Max)(ps): 90; ESD HBM(kV): 8; ICC(Max)(mA): 200; Inter-Pair Skew(Max)(ps): 65; Intra-Pair Skew(Max)(ps): 40; No. of TMDS Inputs: 3; No. of TMDS Outputs: 1; SubFamily: DVI/HDMI Repeater/Switch; TMDS Input Equalization: TRUE; DatasheetVersion: SLLS840B; PackageVersion: Dec-1996; PackageReference: PAG64; PackageDescription: 64-Pin Thin Quad Flat Pack 0.5 mm Pitch; Supplier 1: Digi-Key; Supplier Part Number 1: TMDS351PAGR-ND; Supplier 2: Newark; Supplier Part Number 2: 46M9302; Supplier 3: Mouser; Supplier Part Number 3: 595-TMDS351PAGR; Eco-Plan: Green (RoHS & no Sb/Br); Mounting Technology: Surface Mount; Code_JEDEC: MS-026; ComponentLink1Description: Datasheet; ComponentLink1URL: http://www.ti.com/general/docs/lit/getliterature.tsp?genericPartNumber=TMDS351&fileType=pdf; ComponentLink2Description: URL Link1; ComponentLink2URL: SamplesURL:http://www.ti.com/product/tmds351#samples
footprint PAG64_N (Thin QFP, 64-Leads, Body 10x10mm, Pitch 0.5mm, IPC Medium Density)
footprint PAG64_L (Thin QFP, 64-Leads, Body 10x10mm, Pitch 0.5mm, IPC High Density)
footprint PAG64_M (Thin QFP, 64-Leads, Body 10x10mm, Pitch 0.5mm, IPC Low Density)
part A pins: 1 SDA3 (io) "Source port 3 DDC I2C data line", 2 SCL3 (io) "Source port 3 DDC I2C clock line", 4 B31 (in) "Source port 3 TMDS negative inputs", 5 A31 (in) "Source port 3 TMDS positive inputs", 7 B32 (in) "Source port 3 TMDS negative inputs", 8 A32 (in) "Source port 3 TMDS positive inputs", 10 B33 (in) "Source port 3 TMDS negative inputs", 11 A33 (in) "Source port 3 TMDS positive inputs", 13 B34 (in) "Source port 3 TMDS negative inputs", 14 A34 (in) "Source port 3 TMDS positive inputs", 16 VSADJ (in) "TMDS compliant voltage swing control (control pin)", 17 Y4 (hiz) "Sink port TMDS positive outputs", 18 Z4 (hiz) "Sink port TMDS negative outputs", 20 Y3 (hiz) "Sink port TMDS positive outputs", 21 Z3 (hiz) "Sink port TMDS negative outputs", 23 Y2 (hiz) "Sink port TMDS positive outputs", 24 Z2 (hiz) "Sink port TMDS negative outputs", 26 Y1 (hiz) "Sink port TMDS positive outputs", 27 Z1 (hiz) "Sink port TMDS negative outputs", 29 SCL_SINK (io) "Sink port DDC I2C clock line", 30 SDA_SINK (io) "Sink port DDC I2C data line", 31 HPD_SINK (in) "Sink port hot plug detector input (status pin)", 32 S1 (in) "Source selector", 33 S2 (in) "Source selector", 34 EQ (in) "TMDS Input equalization selector (control pin)  EQ = Low - HDMI 1.3 compliant cable. EQ = High - 10m 28 AWG HDMI cable.", 35 HPD1 (out) "Source port 1 hot plug detector output (status pin)", 36 SDA1 (io) "Source port 1 DDC I2C data line", 37 SCL1 (io) "Source port 1 DDC I2C clock line", 38 B11 (in) "Source port 1 TMDS negative inputs", 39 A11 (in) "Source port 1 TMDS positive inputs", 41 B12 (in) "Source port 1 TMDS negative inputs", 42 A12 (in) "Source port 1 TMDS positive inputs", 44 B13 (in) "Source port 1 TMDS negative inputs", 45 A13 (in) "Source port 1 TMDS positive inputs", 47 B14 (in) "Source port 1 TMDS negative inputs", 48 A14 (in) "Source port 1 TMDS positive inputs", 50 HPD2 (out) "Source port 2 hot plug detector output (status pin)", 51 SDA2 (io) "Source port 2 DDC I2C data line", 52 SCL2 (io) "Source port 2 DDC I2C clock line", 53 B21 (in) "Source port 2 TMDS negative inputs", 54 A21 (in) "Source port 2 TMDS positive inputs", 56 B22 (in) "Source port 2 TMDS negative inputs", 57 A22 (in) "Source port 2 TMDS positive inputs", 59 B23 (in) "Source port 2 TMDS negative inputs", 60 A23 (in) "Source port 2 TMDS positive inputs", 62 B24 (in) "Source port 2 TMDS negative inputs", 63 A24 (in) "Source port 2 TMDS positive inputs", 64 HPD3 (out) "Source port 3 hot plug detector output (status pin)"
part B pins: 3 GND (power) "Ground", 6 VCC (power) "Power supply", 9 GND (power) "Ground", 12 VCC (power) "Power supply", 15 GND (power) "Ground", 19 VCC (power) "Power supply", 22 GND (power) "Ground", 25 VCC (power) "Power supply", 28 GND (power) "Ground", 40 VCC (power) "Power supply", 43 GND (power) "Ground", 46 VCC (power) "Power supply", 49 VDD (power) "HPD/DDC Power supply", 55 VCC (power) "Power supply", 58 GND (power) "Ground", 61 VCC (power) "Power supply"

## TMDS351PAGRG4
designator U?
3-to-1 HDMI Switch, 8 kV, 200 mA, 0 to +70 degC, 64-pin TQFP (PAG), Green (RoHS & no Sb/Br); Manufacturer: Texas Instruments; PartNumber: TMDS351PAGRG4; Clock P-P Jitter(Max)(ps): 30; Data P-P Jitter(Max)(ps): 90; ESD HBM(kV): 8; ICC(Max)(mA): 200; Inter-Pair Skew(Max)(ps): 65; Intra-Pair Skew(Max)(ps): 40; No. of TMDS Inputs: 3; No. of TMDS Outputs: 1; SubFamily: DVI/HDMI Repeater/Switch; TMDS Input Equalization: TRUE; DatasheetVersion: SLLS840B; PackageVersion: Dec-1996; PackageReference: PAG64; PackageDescription: 64-Pin Thin Quad Flat Pack 0.5 mm Pitch; Supplier 1: Digi-Key; Supplier Part Number 1: TMDS351PAGRG4-ND; Supplier 2: Newark; Supplier Part Number 2: 52M6091; Supplier 3: Mouser; Supplier Part Number 3: 595-TMDS351PAGRG4; Eco-Plan: Green (RoHS & no Sb/Br); Mounting Technology: Surface Mount; Code_JEDEC: MS-026; ComponentLink1Description: Datasheet; ComponentLink1URL: http://www.ti.com/general/docs/lit/getliterature.tsp?genericPartNumber=TMDS351&fileType=pdf; ComponentLink2Description: URL Link1; ComponentLink2URL: SamplesURL:http://www.ti.com/product/tmds351#samples
footprint PAG64_N (Thin QFP, 64-Leads, Body 10x10mm, Pitch 0.5mm, IPC Medium Density)
footprint PAG64_L (Thin QFP, 64-Leads, Body 10x10mm, Pitch 0.5mm, IPC High Density)
footprint PAG64_M (Thin QFP, 64-Leads, Body 10x10mm, Pitch 0.5mm, IPC Low Density)
part A pins: 1 SDA3 (io) "Source port 3 DDC I2C data line", 2 SCL3 (io) "Source port 3 DDC I2C clock line", 4 B31 (in) "Source port 3 TMDS negative inputs", 5 A31 (in) "Source port 3 TMDS positive inputs", 7 B32 (in) "Source port 3 TMDS negative inputs", 8 A32 (in) "Source port 3 TMDS positive inputs", 10 B33 (in) "Source port 3 TMDS negative inputs", 11 A33 (in) "Source port 3 TMDS positive inputs", 13 B34 (in) "Source port 3 TMDS negative inputs", 14 A34 (in) "Source port 3 TMDS positive inputs", 16 VSADJ (in) "TMDS compliant voltage swing control (control pin)", 17 Y4 (hiz) "Sink port TMDS positive outputs", 18 Z4 (hiz) "Sink port TMDS negative outputs", 20 Y3 (hiz) "Sink port TMDS positive outputs", 21 Z3 (hiz) "Sink port TMDS negative outputs", 23 Y2 (hiz) "Sink port TMDS positive outputs", 24 Z2 (hiz) "Sink port TMDS negative outputs", 26 Y1 (hiz) "Sink port TMDS positive outputs", 27 Z1 (hiz) "Sink port TMDS negative outputs", 29 SCL_SINK (io) "Sink port DDC I2C clock line", 30 SDA_SINK (io) "Sink port DDC I2C data line", 31 HPD_SINK (in) "Sink port hot plug detector input (status pin)", 32 S1 (in) "Source selector", 33 S2 (in) "Source selector", 34 EQ (in) "TMDS Input equalization selector (control pin)  EQ = Low - HDMI 1.3 compliant cable. EQ = High - 10m 28 AWG HDMI cable.", 35 HPD1 (out) "Source port 1 hot plug detector output (status pin)", 36 SDA1 (io) "Source port 1 DDC I2C data line", 37 SCL1 (io) "Source port 1 DDC I2C clock line", 38 B11 (in) "Source port 1 TMDS negative inputs", 39 A11 (in) "Source port 1 TMDS positive inputs", 41 B12 (in) "Source port 1 TMDS negative inputs", 42 A12 (in) "Source port 1 TMDS positive inputs", 44 B13 (in) "Source port 1 TMDS negative inputs", 45 A13 (in) "Source port 1 TMDS positive inputs", 47 B14 (in) "Source port 1 TMDS negative inputs", 48 A14 (in) "Source port 1 TMDS positive inputs", 50 HPD2 (out) "Source port 2 hot plug detector output (status pin)", 51 SDA2 (io) "Source port 2 DDC I2C data line", 52 SCL2 (io) "Source port 2 DDC I2C clock line", 53 B21 (in) "Source port 2 TMDS negative inputs", 54 A21 (in) "Source port 2 TMDS positive inputs", 56 B22 (in) "Source port 2 TMDS negative inputs", 57 A22 (in) "Source port 2 TMDS positive inputs", 59 B23 (in) "Source port 2 TMDS negative inputs", 60 A23 (in) "Source port 2 TMDS positive inputs", 62 B24 (in) "Source port 2 TMDS negative inputs", 63 A24 (in) "Source port 2 TMDS positive inputs", 64 HPD3 (out) "Source port 3 hot plug detector output (status pin)"
part B pins: 3 GND (power) "Ground", 6 VCC (power) "Power supply", 9 GND (power) "Ground", 12 VCC (power) "Power supply", 15 GND (power) "Ground", 19 VCC (power) "Power supply", 22 GND (power) "Ground", 25 VCC (power) "Power supply", 28 GND (power) "Ground", 40 VCC (power) "Power supply", 43 GND (power) "Ground", 46 VCC (power) "Power supply", 49 VDD (power) "HPD/DDC Power supply", 55 VCC (power) "Power supply", 58 GND (power) "Ground", 61 VCC (power) "Power supply"